# Altium footprint library B2B-PH-K-S.PcbLib: 1 footprints
Each footprint in its own frame and in the unit in brackets; x right, y up, seen from the top. Pads: shape width x height; smd on the part's side, far side on the other; paste and mask are expansions set on the pad; w line width, h text height; cw(c..) or ccw(c..) is an arc to the next point about the centre after c.
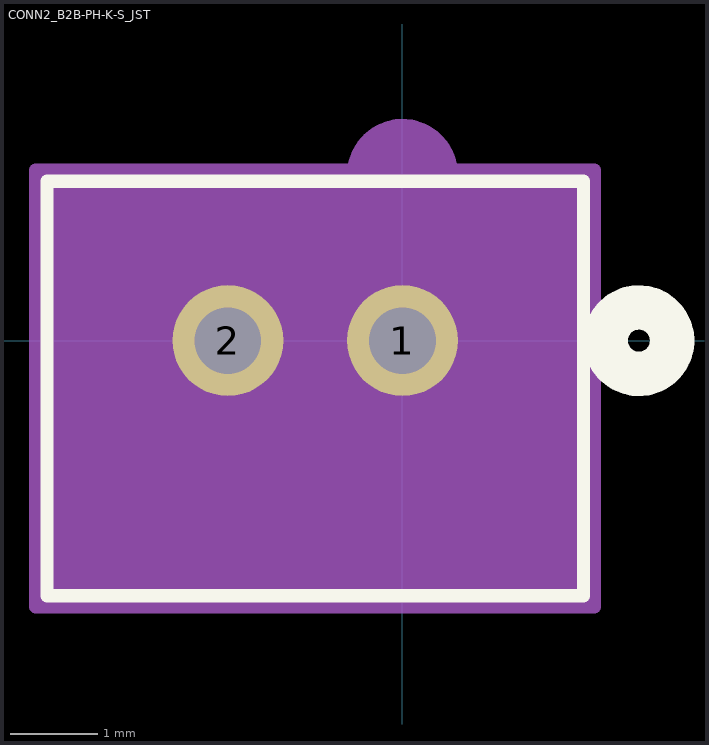
[diagram p0: the footprint, top view; thin cyan lines are the x and y axes]

## CONN2_B2B-PH-K-S_JST [mil]
pads (2):
  round 50 / inner round 60 / far side round 50 hole 30 paste-25 mask+0: 1(0,0) 2(-78.74,0)
Top Overlay:
  circle w20: c106.63,0 r15
  lines w6: -160.37,-115.07 81.63,-115.07 81.63,71.93 -160.37,71.93 -160.37,-115.07
Bottom Overlay:
  circle w20: c106.63,0 r15
Mechanical 13:
  circle w20: c0,75 r15
  lines w1: -155.37,-110.07 76.63,-110.07 76.63,66.93 -155.37,66.93 -155.37,-110.07
Mechanical 15:
  region: 86.63,76.93 -165.37,76.93 -165.37,-120.07 86.63,-120.07
  lines w6: -165.37,-120.07 -165.37,76.93 86.63,76.93 86.63,-120.07 -165.37,-120.07